# EAGLE library part ARDUINO_PRO_MINI_5V_V1 (library ArduinoProMini5V)
Arduino Pro Mini 5V/16MHz Version 1: FTDI Pins left on Arduino. All headered pins available.
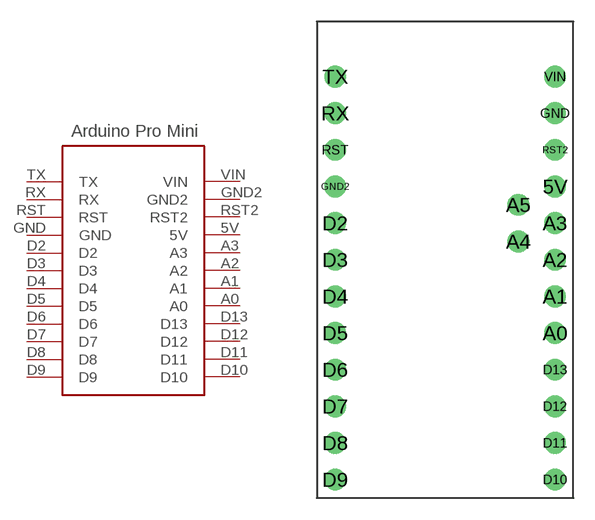
[diagram p0: symbol with the pads of ARDUINO_PRO_MINI_5V_V1; footprint ARDUINO_PRO_MINI_5V_V1]

Designator prefix -

## ARDUINO_PRO_MINI_5V_V1V1  [ARDUINO_PRO_MINI_5V_V1]
5V  5V
A0  A0
A1  A1
A2  A2
A3  A3
D2  D2
D3  D3
D4  D4
D5  D5
D6  D6
D7  D7
D8  D8
D9  D9
D10  D10
D11  D11
D12  D12
D13  D13
GND  GND
GND2  GND2
RST  RST
RST2  RST2
RX  RX
TX  TX
VIN  VIN

## Footprint ARDUINO_PRO_MINI_5V_V1 (pad centres in mm)
Arduino Pro Mini 5V/16MHz Version 1: FTDI Pins left on Arduino. No TX0 and TXI pins.
drill 1: 5V 7.62,8.89; A0 7.62,-1.27; A1 7.62,1.27; A2 7.62,3.81; A3 7.62,6.35; A4 5.08,5.08; A5 5.08,7.62; D2 -7.62,6.35; D3 -7.62,3.81; D4 -7.62,1.27; D5 -7.62,-1.27; D6 -7.62,-3.81; D7 -7.62,-6.35; D8 -7.62,-8.89; D9 -7.62,-11.43; D10 7.62,-11.43; D11 7.62,-8.89; D12 7.62,-6.35; D13 7.62,-3.81; GND 7.62,13.97; GND2 -7.62,8.89; RST -7.62,11.43; RST2 7.62,11.43; RX -7.62,13.97; TX -7.62,16.51; VIN 7.62,16.51